# Altium footprint library orthofixture.PcbLib: 65 footprints (part 5 of 5)
Each footprint in its own frame and in the unit in brackets; x right, y up, seen from the top. Pads: shape width x height; smd on the part's side, far side on the other; paste and mask are expansions set on the pad; w line width, h text height; cw(c..) or ccw(c..) is an arc to the next point about the centre after c.
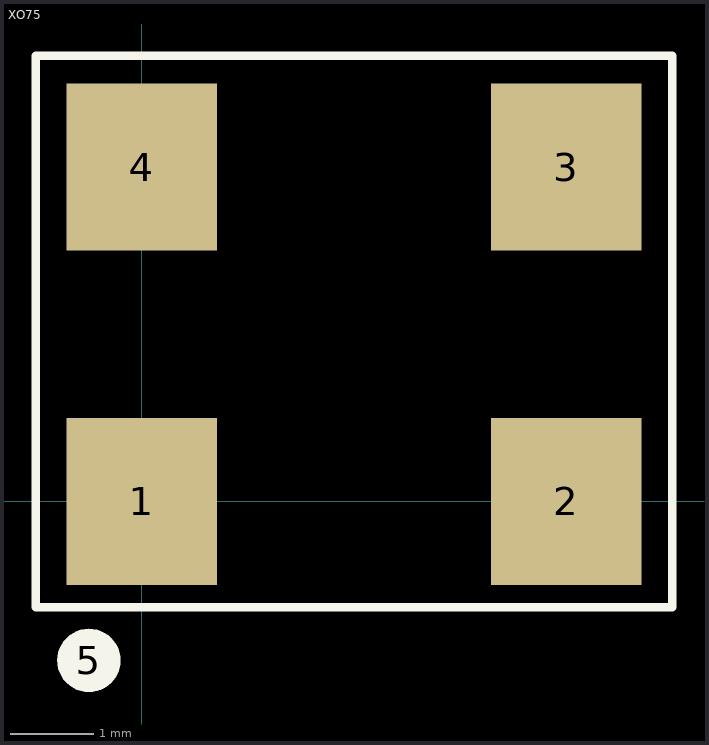
[diagram p4: the footprint, top view; thin cyan lines are the x and y axes]

## XO75 [mm] "晶体振荡器,7.0×5.0×1.70 mm"
height 1.7
pads (5):
  rect 1.8x2 smd: 1(0,0) 2(5.08,0) 3(5.08,4) 4(0,4)
  round 0.762 on Top Overlay: 5(-0.635,-1.905)
Top Overlay:
  lines w0.1: -1.27,-1.27 6.35,-1.27 6.35,5.334 -1.27,5.334 -1.27,5.08 -1.27,-1.27